# Altium footprint library Device.PcbLib: 9 footprints
Each footprint in its own frame and in the unit in brackets; x right, y up, seen from the top. Pads: shape width x height; smd on the part's side, far side on the other; paste and mask are expansions set on the pad; w line width, h text height; cw(c..) or ccw(c..) is an arc to the next point about the centre after c.
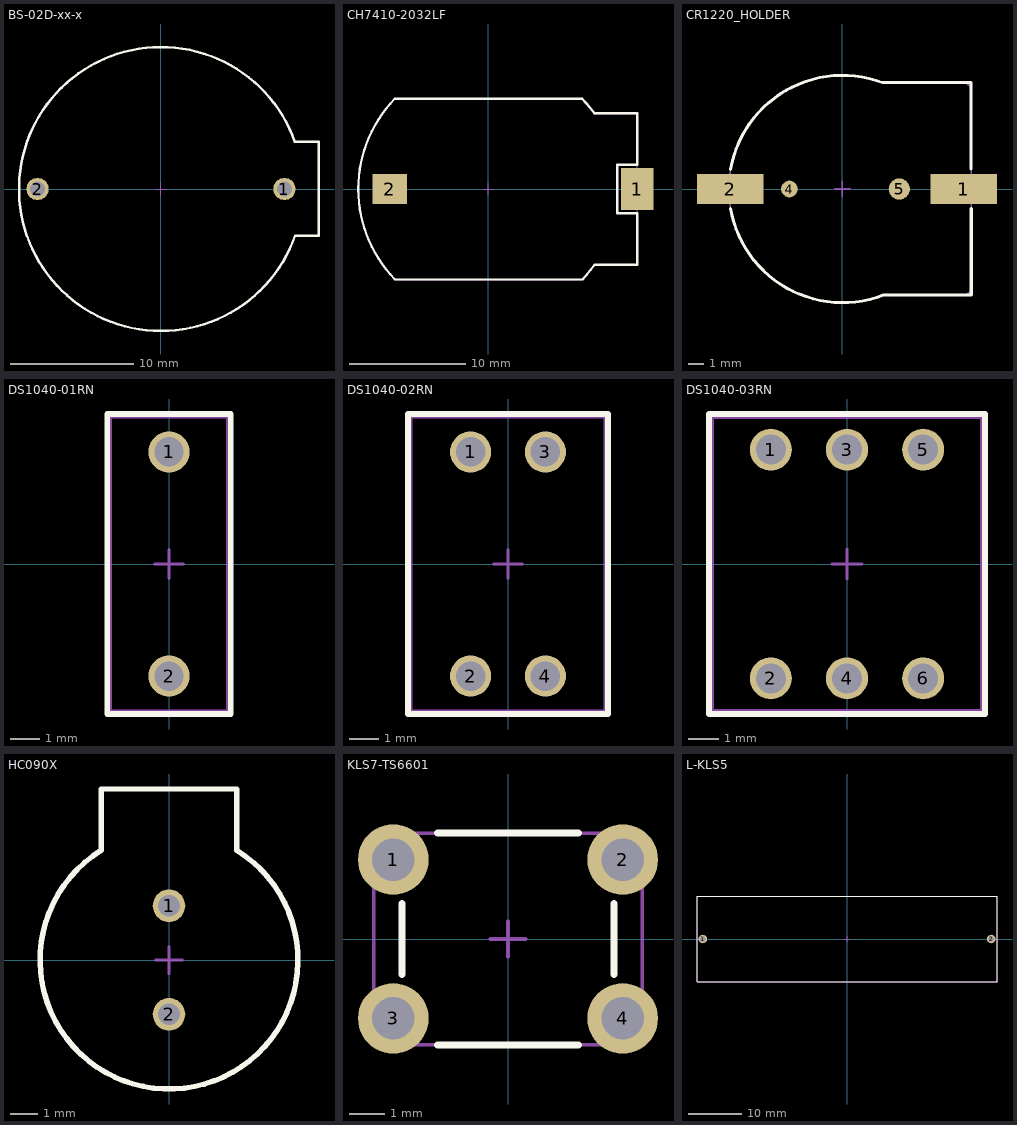
[diagram p0: the footprints below, top view; thin cyan lines are the x and y axes]

## BS-02D-xx-x [mm] "BS-02D Package, 2032 battery holder, site: www.rtc.ru"
height 2.5
pads (2):
  round 1.8 hole 1.2: 1(10,0) 2(-10,0)
Top Overlay:
  lines w0.2: 10.859,-3.786 cw(c0,0) 10.848,3.817 12.783,3.817 12.783,-3.783 10.862,-3.783
ReperDotTop:
  lines w0.1: -0.5,0 0.5,0 ; 0,-0.5 0,0.5
AssemblyOutlineTop:
  lines w0.1: 10.854,-3.801 cw(c0,0) 10.854,3.801 ; 10.854,-3.8 12.8,-3.8 12.8,3.8 10.854,3.8
  text "'.Designator'" at 0,0 h2.5

## CH7410-2032LF [mm] "CH7410, 2032 battery holder, SMT"
height 2.5
pads (2):
  rect 2.8x3.6 smd: 1(12.8,0)
  rect 3x2.6 smd: 2(-8.5,0)
Top Overlay:
  lines w0.2: 8.068,7.769 -8.068,7.769 ccw(c0,0) -8.068,-7.769 -8.047,-7.789 8.089,-7.789 ccw(c0,0) 9.138,-6.527 12.8,-6.527 12.8,-2.1 11.1,-2.1 11.1,-1.568 11.1,2.1 12.8,2.1 12.8,3.251 12.8,6.51 9.114,6.51 ccw(c0,0) 8.068,7.769
ReperDotTop:
  lines w0.1: -0.5,0 0.5,0 ; 0,-0.5 0,0.5
AssemblyOutlineTop:
  lines w0.1: -8.044,-7.794 cw(c0,0) -8.044,7.794 ; -8.025,-7.8 8.049,-7.8 ; -8.025,7.8 8.044,7.8 ; 8.044,7.794 cw(c0,0) 9.114,6.51 ; 8.049,-7.799 ccw(c0.004,-0.007) 9.12,-6.514 ; 9.12,-6.5 12.8,-6.5 12.8,6.5 9.124,6.5
  text "'.Designator'" at 0,0 h2.5
3D body "User Library-BLP2032M-G.step": height 4.86, standoff 0, extent -10.96,-7.55 12.8,7.55

## CR1220_HOLDER [mm]
height 0.5
pads (4):
  rect 4.4x2 smd mask+0.102: 1(8,0) 2(-7.4,0)
  round 1.1 all layers, no hole mask+0: 4(-3.5,0)
  round 1.4 all layers, no hole mask+0: 5(3.75,0)
Top Overlay:
  lines w0.2: -7.387,-1.298 ccw(c0,0) 2.699,-6.998 ; -7.387,1.298 cw(c0,0) 2.655,7.014 ; 2.655,7.016 8.484,7.016 8.484,1.316 ; 2.699,-7 8.5,-7 8.5,-1.3
ReperDotTop:
  lines w0.1: -0.5,0 0.5,0 ; 0,-0.5 0,0.5
AssemblyOutlineTop:
  lines w0.12: 2.699,-6.998 cw(c0,0) 2.733,6.984 ; 2.7,-7 8,-7 ccw(c8,-6.5) 8.5,-6.5 8.5,6.5 ccw(c8,6.5) 8,7 2.7,7
  text "'.Designator'" at 0,0 h2.5
3D body "User Library-Battery Holder for CR1220 SMD.step": height 4.28, standoff -0.47, extent -9.1,-7.4 9.7,7.349

## DS1040-01RN [mm] "Connfly DIP Switch, 1-Way, Pitch 7.62mm"
height 2.5
pads (2):
  round 1.4 hole 1 unplated mask+0.1: 1(0,3.81) 2(0,-3.81)
Top Overlay:
  lines w0.2: -2.1,-5.1 -2.1,5.1 2.1,5.1 2.1,-5.1 -2.1,-5.1
ReperDotTop:
  lines w0.1: -0.5,0 0.5,0 ; 0,-0.5 0,0.5
AssemblyOutlineTop:
  lines w0.12: -2,-5 2,-5 2,5 -2,5 -2,-5
  text "'.Designator'" at 0,0 h2.5
3D body "User Library-DS1040-01 (DIP_switch).step": height 6.8, standoff -3.85, extent -2,-4.95 2,4.95

## DS1040-02RN [mm] "Connfly DIP Switch, 2-Way, Pitch 7.62mm"
height 2.5
pads (4):
  round 1.4 hole 1 unplated mask+0.1: 1(-1.27,3.81) 2(-1.27,-3.81) 3(1.27,3.81) 4(1.27,-3.81)
Top Overlay:
  lines w0.2: -3.4,-5.1 3.4,-5.1 3.4,5.1 -3.4,5.1 -3.4,-5.1
ReperDotTop:
  lines w0.1: -0.5,0 0.5,0 ; 0,-0.5 0,0.5
AssemblyOutlineTop:
  lines w0.12: -3.3,-5 -3.3,5 3.3,5 3.3,-5 -3.3,-5
  text "'.Designator'" at 0,0 h2.5
3D body "User Library-DS1040-02 (DIP_switch).step": height 6.8, standoff -3.85, extent -3.27,-4.95 3.27,4.95

## DS1040-03RN [mm] "Connfly DIP Switch, 3-Way, Pitch 7.62mm"
height 2.5
pads (6):
  round 1.4 hole 1 unplated mask+0.1: 1(-2.54,3.81) 2(-2.54,-3.81) 3(0,3.81) 4(0,-3.81) 5(2.54,3.81) 6(2.54,-3.81)
Top Overlay:
  lines w0.2: -4.6,-5 4.6,-5 4.6,5 -4.6,5 -4.6,-5
ReperDotTop:
  lines w0.1: -0.5,0 0.5,0 ; 0,-0.5 0,0.5
AssemblyOutlineTop:
  lines w0.12: -4.5,-4.9 -4.5,4.9 4.5,4.9 4.5,-4.9 -4.5,-4.9
  text "'.Designator'" at 0,0 h2.5
3D body "User Library-DS1040-03 (DIP_switch).step": height 6.8, standoff -3.85, extent -4.54,-4.95 4.54,4.95

## HC090X [mm] "2 pins, Pitch 4mm"
height 2.5
pads (2):
  round 1.2 hole 0.8: 1(0,2) 2(0,-2)
Top Overlay:
  lines w0.2: -2.5,4.042 -2.5,6.3 2.5,6.3 2.5,4.039 ; -2.495,4.042 ccw(c0,0) 2.499,4.039
ReperDotTop:
  lines w0.1: -0.5,0 0.5,0 ; 0,-0.5 0,0.5
AssemblyOutlineTop:
  text "'.Designator'" at 0,0 h2.5
3D body "cst-911rp-a.stp": height 4.5, standoff -4.5, extent -4.5,-4.5 4.5,6.1

## KLS7-TS6601 [mm] "4 pin Tact Switch, Body 6x6mm"
height 2.5
pads (4):
  round 2 hole 1.2: 1(-3.25,2.25) 2(3.25,2.25) 3(-3.25,-2.25) 4(3.25,-2.25)
Top Overlay:
  lines w0.2: -3,-1 -3,1 ; -2,-3 2,-3 ; -2,3 2,3 ; 3,-1 3,1
ReperDotTop:
  lines w0.1: -0.5,0 0.5,0 ; 0,-0.5 0,0.5
AssemblyOutlineTop:
  lines w0.1: -3.8,-3 3.8,-3 3.8,3 -3.8,3 -3.8,-3
  text "'.Designator'" at 0,0 h2.5
3D body "User Library-TACT_9_5.step": height 9.5, standoff -3.5, extent -3.844,-3 3.844,3

## L-KLS5 [mm] "AA Batterry Holder"
height 2.5
pads (2):
  round 1.6 hole 1 unplated mask+0.1: 1(-27,0) 2(27,0)
Top Overlay:
  lines w0.2: -28.1,-8 -28.1,8 28.1,8 28.1,-8 -28.1,-8
ReperDotTop:
  lines w0.1: -0.5,0 0.5,0 ; 0,-0.5 0,0.5
AssemblyOutlineTop:
  lines w0.12: -28.1,-8 -28.1,8 28.1,8 28.1,-8 -28.1,-8
  text "'.Designator'" at 0,0 h2.5
3D body: height 13.5, standoff 0.1, extent -28.1,-8 28.1,8